# EAGLE library part USB_MINI_SMT (library connectors)
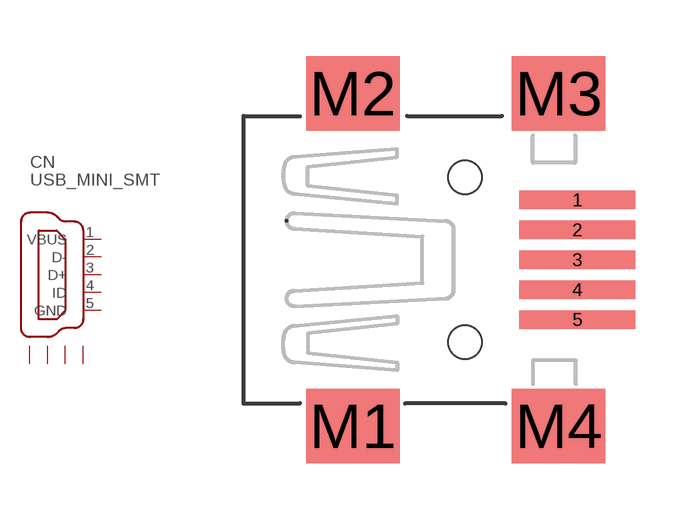
[diagram p3: symbol with the pads of USB_MINI_SMT; footprint USB_MINI_SMT]

Designator prefix CN

## USB_MINI_SMT (PACKAGE: USB_MINI_SMT)  [USB_MINI_SMT]
1  VBUS
2  D-
3  D+
4  ID
5  GND  pwr
M1  P1  pwr
M2  P2  pwr
M3  P3  pwr
M4  P4  pwr

## Footprint USB_MINI_SMT (pad centres in mm)
smd 3.1 x 0.5: 1 3,1.6; 2 3,0.8; 3 3,0; 4 3,-0.8; 5 3,-1.6
smd 2.5 x 2: M1 -3,-4.45; M2 -3,4.45; M3 2.5,4.45; M4 2.5,-4.45
hole 0.9 at 0,2.2
hole 0.9 at 0,-2.2